# Altium footprint library CAPPRD750W80D1850H3750.PcbLib: 1 footprints
Each footprint in its own frame and in the unit in brackets; x right, y up, seen from the top. Pads: shape width x height; smd on the part's side, far side on the other; paste and mask are expansions set on the pad; w line width, h text height; cw(c..) or ccw(c..) is an arc to the next point about the centre after c.
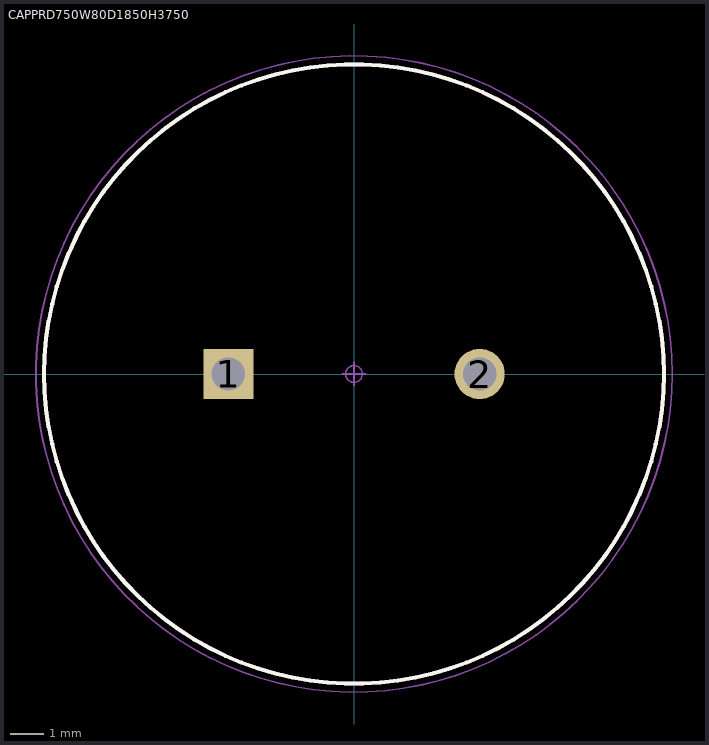
[diagram p0: the footprint, top view; thin cyan lines are the x and y axes]

## CAPPRD750W80D1850H3750 [mm] "Capacitor, Polarized, Radial (Electrolytic); 7.50 mm C X 18.50 mm Dia X 37.50 mm H body"
height 37.5
pads (2):
  rect 1.5x1.5 / inner round 1.5 / far side rect 1.5x1.5 hole 1 paste-1.5: 1(-3.75,0)
  round 1.5 hole 1 paste-1.5: 2(3.75,0)
Top Overlay:
  circle w0.12: c0,0 r9.25
Mechanical 3:
  circle w0.12: c0,0 r9.25
Mechanical 5:
  circle w0.025: c-3.75,0 r0.4
  circle w0.025: c3.75,0 r0.4
  circle w0.025: c0,0 r9.25
Mechanical 7:
  circle w0.05: c0,0 r9.5
  circle w0.05: c0,0 r0.25
  lines w0.05: -0.35,0 0.35,0 ; 0,-0.35 0,0.35
Mechanical 9:
  text "'.Designator'" at -3.553,-3.444 h1
3D body "CAPPRD750W80D1850H3750.STEP": height 37.51, standoff -2, extent -9.25,-9.25 9.26,9.25
3D body: height 10, standoff 0, extent -9.5,-9.497 9.5,9.497